# EAGLE library part R-4ARR (library rcl)
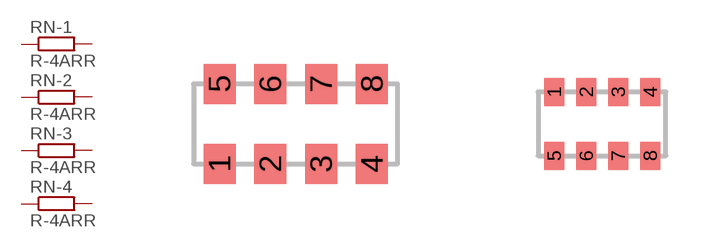
[diagram p1: symbol with the pads of R0805X4; footprints R0805X4, L0603X4]

Designator prefix RN; gates -1=R-EU -2=R-EU -3=R-EU -4=R-EU

## R-4ARR0805X4  [R0805X4]
1  -1:1  pas
2  -2:1  pas
3  -3:1  pas
4  -4:1  pas
5  -1:2  pas
6  -2:2  pas
7  -3:2  pas
8  -4:2  pas

## R-4ARR0603X4  [L0603X4]
Pads as for R0805X4

## Footprint R0805X4 (pad centres in mm)
smd 0.8 x 1: 1 0,0; 2 1.27,0; 3 2.54,0; 4 3.81,0; 5 0,2; 6 1.27,2; 7 2.54,2; 8 3.81,2

## Footprint L0603X4 (pad centres in mm)
smd 0.5 x 0.7: 1 0,1.35; 2 0.8,1.35; 3 1.6,1.35; 4 2.4,1.35; 5 0,-0.25; 6 0.8,-0.25; 7 1.6,-0.25; 8 2.4,-0.25